# Altium footprint library IFBpcblib.PcbLib: 85 footprints (part 4 of 6)
Each footprint in its own frame and in the unit in brackets; x right, y up, seen from the top. Pads: shape width x height; smd on the part's side, far side on the other; paste and mask are expansions set on the pad; w line width, h text height; cw(c..) or ccw(c..) is an arc to the next point about the centre after c.
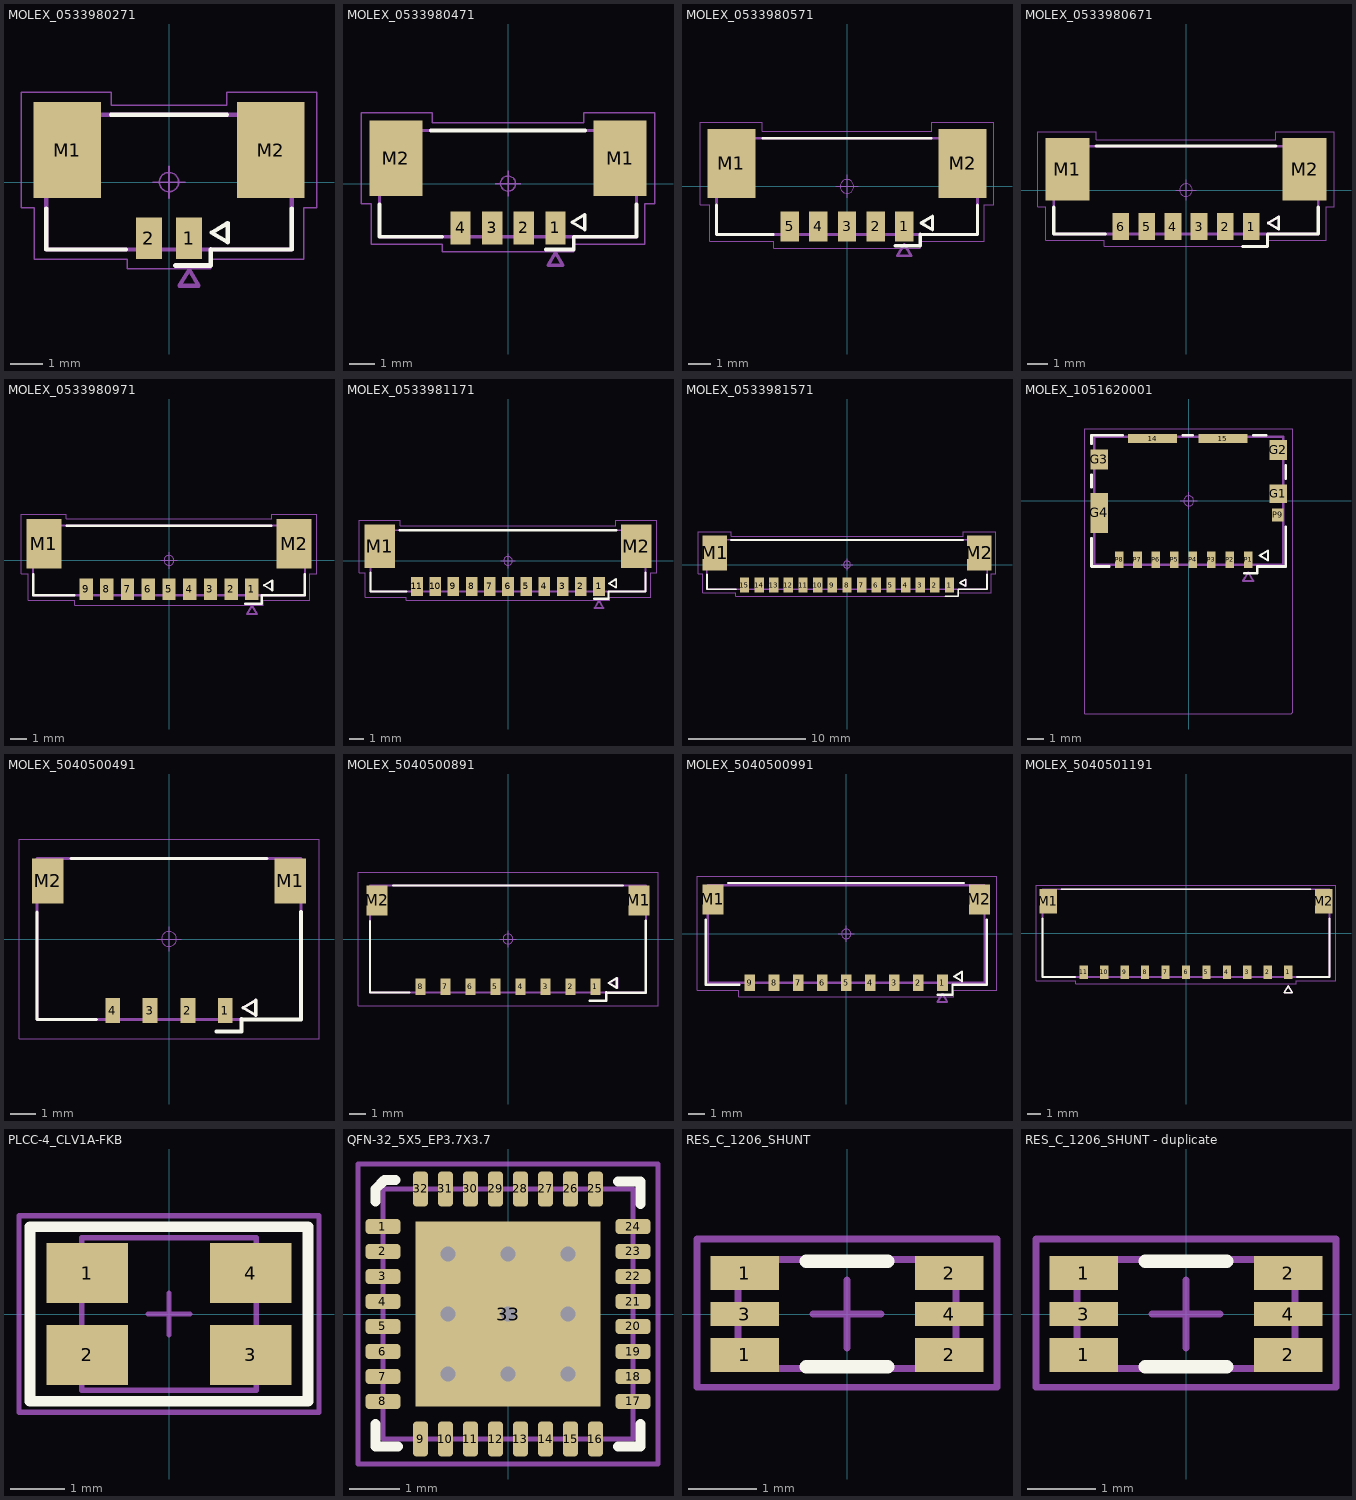
[diagram p3: the footprints below, top view; thin cyan lines are the x and y axes]

## MOLEX_0533980271 [mm]
height 4.7
pads (4):
  rect 0.8x1.3 smd mask+0.076: 1(0.625,-1.75) 2(-0.625,-1.75)
  rect 2.1x3 smd mask+0.076: M1(-3.175,1) M2(3.175,1)
Top Overlay:
  lines w0.127: -3.825,-0.82 -3.825,-2.1 -1.345,-2.1 ; -1.805,2.1 1.805,2.1 ; 1.345,-2.1 3.825,-2.1 3.825,-0.82 ; 1.33,-1.575 1.83,-1.275 1.83,-1.875 1.33,-1.575
  lines w0.15: 0.2,-2.6 1.3,-2.6 1.3,-2.1
Top Assembly:
  lines w0.127: -3.825,-2.1 3.825,-2.1 3.825,2.1 -3.825,2.1 -3.825,-2.1 ; 0.325,-3.23 0.625,-2.73 0.925,-3.23 0.325,-3.23
  text "'.Designator'" at -4.217,-0.663 h1.6
Top Courtyard:
  lines w0.05: -4.6,-0.8 -4.6,2.8 -1.8,2.8 -1.8,2.4 1.8,2.4 1.8,2.8 4.2,2.8 4.6,2.8 4.6,-0.8 4.2,-0.8 4.2,-2.4 1.3,-2.4 1.3,-2.7 -1.3,-2.7 -1.3,-2.4 -4.2,-2.4 -4.2,-0.8 -4.6,-0.8
Top Component Center:
  circle w0.05: c0,0 r0.3
  lines w0.05: -0.5,0 0.5,0 ; 0,-0.5 0,0.5
3D body "533980271.STEP": height 4.7, standoff 0, extent -3.825,-2.096 3.825,2.104

## MOLEX_0533980471 [mm]
height 4.7
pads (6):
  rect 0.8x1.3 smd mask+0.076: 1(1.875,-1.75) 2(0.625,-1.75) 3(-0.625,-1.75) 4(-1.875,-1.75)
  rect 2.1x3 smd mask+0.076: M1(4.425,1) M2(-4.425,1)
Top Overlay:
  lines w0.127: 2.53,-1.525 3.03,-1.225 3.03,-1.825 2.53,-1.525
  lines w0.15: -5.075,-0.82 -5.075,-2.1 -2.595,-2.1 ; -3.055,2.1 3.055,2.1 ; 1.5,-2.6 2.6,-2.6 2.6,-2.1 ; 2.595,-2.1 5.075,-2.1 5.075,-0.82
Top Assembly:
  lines w0.127: -5.075,-2.1 5.075,-2.1 5.075,2.1 -5.075,2.1 -5.075,-2.1 ; 1.575,-3.23 1.875,-2.73 2.175,-3.23 1.575,-3.23
  text "'.Designator'" at -4.217,-0.663 h1.6
Top Courtyard:
  lines w0.05: -5.8,-0.8 -5.8,2.8 -3.4,2.8 -3,2.8 -3,2.4 3,2.4 3,2.8 5.8,2.8 5.8,-0.8 5.4,-0.8 5.4,-2.4 2.6,-2.4 2.6,-2.7 -2.6,-2.7 -2.6,-2.4 -5.4,-2.4 -5.4,-0.8 -5.8,-0.8
Top Component Center:
  circle w0.05: c0,0 r0.3
  lines w0.05: -0.5,0 0.5,0 ; 0,-0.5 0,0.5
3D body "533980471.STEP": height 4.7, standoff 0, extent -5.075,-2.15 5.075,2.05

## MOLEX_0533980571 [mm]
height 4.7
pads (7):
  rect 0.8x1.3 smd mask+0.076: 1(2.5,-1.75) 2(1.25,-1.75) 3(0,-1.75) 4(-1.25,-1.75) 5(-2.5,-1.75)
  rect 2.1x3 smd mask+0.076: M1(-5.05,1) M2(5.05,1)
Top Overlay:
  lines w0.127: -5.7,-0.82 -5.7,-2.1 -3.22,-2.1 ; -3.68,2.1 3.68,2.1 ; 3.22,-2.1 5.7,-2.1 5.7,-0.82 ; 3.23,-1.6 3.73,-1.9 3.73,-1.3 3.23,-1.6
  lines w0.15: 2.1,-2.6 3.2,-2.6 3.2,-2.1
Top Assembly:
  lines w0.127: -5.7,-2.1 5.7,-2.1 5.7,2.1 -5.7,2.1 -5.7,-2.1 ; 2.2,-3.03 2.8,-3.03 2.5,-2.53 2.2,-3.03
  text "'.Designator'" at -4.217,-0.663 h1.6
Top Courtyard:
  lines w0.05: -6.4,-0.8 -6,-0.8 -6,-2.4 -3.2,-2.4 -3.2,-2.7 3.2,-2.7 3.2,-2.4 6,-2.4 6,-0.8 6.4,-0.8 6.4,2.8 3.7,2.8 3.7,2.4 -3.7,2.4 -3.7,2.8 -6.4,2.8 -6.4,2.4 -6.4,-0.8
Top Component Center:
  circle w0.05: c0,0 r0.3
  lines w0.05: -0.5,0 0.5,0 ; 0,-0.5 0,0.5
3D body "step_temp.STEP": height 4.7, standoff 0, extent -5.7,-2.35 5.7,1.85

## MOLEX_0533980671 [mm]
height 4.7
pads (8):
  rect 0.8x1.3 smd mask+0.076: 1(3.125,-1.75) 2(1.875,-1.75) 3(0.625,-1.75) 4(-0.625,-1.75) 5(-1.875,-1.75) 6(-3.125,-1.75)
  rect 2.1x3 smd mask+0.076: M1(-5.675,1) M2(5.675,1)
Top Overlay:
  lines w0.127: 3.93,-1.575 4.43,-1.875 4.43,-1.275 3.93,-1.575
  lines w0.15: -6.325,-0.82 -6.325,-2.1 -3.845,-2.1 ; -4.305,2.1 4.305,2.1 ; 2.7,-2.7 3.9,-2.7 3.9,-2.1 6.325,-2.1 6.325,-0.82
Top Assembly:
  lines w0.127: -6.325,-2.1 -6.325,2.1 6.325,2.1 6.325,-2.1 -6.325,-2.1
  text "'.Designator'" at -4.217,-0.663 h1.6
Top Courtyard:
  lines w0.05: -7.1,-0.8 -7.1,2.8 -4.7,2.8 -4.3,2.8 -4.3,2.4 4.3,2.4 4.3,2.8 7.1,2.8 7.1,-0.8 6.7,-0.8 6.7,-2.4 3.9,-2.4 3.9,-2.7 -3.9,-2.7 -3.9,-2.4 -6.7,-2.4 -6.7,-0.8 -7.1,-0.8
Top Component Center:
  circle w0.05: c0,0 r0.3
  lines w0.05: -0.5,0 0.5,0 ; 0,-0.5 0,0.5
Mechanical 13:
  lines w0.127: 3.93,-1.575 4.43,-1.875 4.43,-1.275 3.93,-1.575
3D body "533980671.stp": height 4.7, standoff 0, extent -6.325,-2.1 6.325,2.1

## MOLEX_0533980971 [mm]
height 4.7
pads (11):
  rect 0.8x1.3 smd mask+0.076: 1(5,-1.75) 2(3.75,-1.75) 3(2.5,-1.75) 4(1.25,-1.75) 5(0,-1.75) 6(-1.25,-1.75) 7(-2.5,-1.75) 8(-3.75,-1.75) 9(-5,-1.75)
  rect 2.1x3 smd mask+0.076: M1(-7.55,1) M2(7.55,1)
Top Overlay:
  lines w0.127: 5.73,-1.5 6.23,-1.8 6.23,-1.2 5.73,-1.5
  lines w0.15: -8.2,-0.82 -8.2,-2.1 -5.72,-2.1 ; -6.18,2.1 6.18,2.1 ; 4.6,-2.6 5.6,-2.6 5.6,-2.1 8.2,-2.1 8.2,-0.82
Top Assembly:
  lines w0.127: -8.2,-2.1 -8.2,2.1 8.2,2.1 8.2,-2.1 -8.2,-2.1 ; 4.7,-3.23 5.3,-3.23 5,-2.73 4.7,-3.23
  text "'.Designator'" at -4.217,-0.663 h1.6
Top Courtyard:
  lines w0.05: -8.9,-0.8 -8.9,2.8 -6.5,2.8 -6.2,2.8 -6.2,2.5 6.2,2.5 6.2,2.8 8.9,2.8 8.9,-0.8 8.5,-0.8 8.5,-2.4 5.7,-2.4 5.7,-2.7 -5.7,-2.7 -5.7,-2.4 -8.5,-2.4 -8.5,-0.8 -8.9,-0.8
Top Component Center:
  circle w0.05: c0,0 r0.3
  lines w0.05: -0.5,0 0.5,0 ; 0,-0.5 0,0.5
3D body "533980971.STEP": height 4.7, standoff 0, extent -8.3,-2.05 8.1,2.15

## MOLEX_0533981171 [mm]
height 4.7
pads (13):
  rect 0.8x1.3 smd mask+0.076: 1(6.25,-1.75) 2(5,-1.75) 3(3.75,-1.75) 4(2.5,-1.75) 5(1.25,-1.75) 6(0,-1.75) 7(-1.25,-1.75) 8(-2.5,-1.75) 9(-3.75,-1.75) 10(-5,-1.75) 11(-6.25,-1.75)
  rect 2.1x3 smd mask+0.076: M1(-8.8,1) M2(8.8,1)
Top Overlay:
  lines w0.127: 6.93,-1.55 7.43,-1.25 7.43,-1.85 6.93,-1.55
  lines w0.15: -9.45,-0.82 -9.45,-2.1 -6.97,-2.1 ; -7.43,2.1 7.43,2.1 ; 5.9,-2.6 6.9,-2.6 6.9,-2.1 9.45,-2.1 9.45,-0.82
Top Assembly:
  lines w0.127: -9.45,-2.1 9.45,-2.1 9.45,2.1 -9.45,2.1 -9.45,-2.1 ; 5.95,-3.23 6.25,-2.73 6.55,-3.23 5.95,-3.23
  text "'.Designator'" at -4.217,-0.663 h1.6
Top Courtyard:
  lines w0.05: -10.2,-0.8 -9.8,-0.8 -9.8,-2.4 -9.8,-2.5 -7,-2.5 -7,-2.7 7,-2.7 7,-2.5 9.8,-2.5 9.8,-0.8 10.2,-0.8 10.2,2.8 7.4,2.8 7.4,2.4 -7.4,2.4 -7.4,2.8 -7.8,2.8 -10.2,2.8 -10.2,-0.8
Top Component Center:
  circle w0.05: c0,0 r0.3
  lines w0.05: -0.5,0 0.5,0 ; 0,-0.5 0,0.5
3D body "533981171.STEP": height 4.7, standoff 0, extent -9.45,-2.15 9.45,2.05

## MOLEX_0533981571 [mm]
height 4.7
pads (17):
  rect 0.8x1.3 smd mask+0.076: 1(8.75,-1.75) 2(7.5,-1.75) 3(6.25,-1.75) 4(5,-1.75) 5(3.75,-1.75) 6(2.5,-1.75) 7(1.25,-1.75) 8(0,-1.75) 9(-1.25,-1.75) 10(-2.5,-1.75) 11(-3.75,-1.75) 12(-5,-1.75) 13(-6.25,-1.75) 14(-7.5,-1.75) 15(-8.75,-1.75)
  rect 2.1x3 smd mask+0.076: M1(-11.3,1) M2(11.3,1)
Top Overlay:
  lines w0.127: 9.63,-1.55 10.13,-1.85 10.13,-1.25 9.63,-1.55
  lines w0.15: -11.95,-0.82 -11.95,-2.1 -9.47,-2.1 ; -9.93,2.1 9.93,2.1 ; 8.4,-2.7 9.5,-2.7 9.5,-2.1 11.95,-2.1 11.95,-0.82
Top Assembly:
  lines w0.127: -11.95,-2.1 -11.95,2.1 11.95,2.1 11.95,-2.1 -11.95,-2.1 ; 9.63,-1.55 10.13,-1.25 10.13,-1.85 9.63,-1.55
  text "'.Designator'" at -4.217,-0.663 h1.6
Top Courtyard:
  lines w0.05: -12.7,-0.8 -12.3,-0.8 -12.3,-2.4 -9.5,-2.4 -9.5,-2.7 9.493,-2.7 9.493,-2.407 9.5,-2.4 12.3,-2.4 12.3,-0.8 12.7,-0.8 12.7,2.8 9.9,2.8 9.9,2.4 -9.889,2.4 -9.889,2.789 -9.9,2.8 -12.3,2.8 -12.7,2.8 -12.7,-0.8
Top Component Center:
  circle w0.05: c0,0 r0.3
  lines w0.05: -0.5,0 0.5,0 ; 0,-0.5 0,0.5
3D body "533981571.stp": height 4.7, standoff 0, extent -11.95,-2.1 11.95,2.1

## MOLEX_1051620001 [mil]
pads (15):
  rect 115x22 smd: 14(-84.45,146.35) 15(80.51,146.35)
  rect 41x43 smd: G1(209.65,17.02)
  rect 41x47 smd: G2(209.65,119.78) G3(-209.64,97.33)
  rect 41x94 smd: G4(-209.65,-28.06)
  rect 20x39 smd: P1(139.76,-138.49) P2(96.46,-138.49) P3(53.15,-138.49) P4(9.84,-138.49) P5(-33.46,-138.49) P6(-76.77,-138.49) P7(-120.08,-138.49) P8(-163.39,-138.49)
  rect 28x31 smd: P9(209.06,-32.98)
Top Overlay:
  lines w5: 166.54,-127.95 186.22,-139.76 186.22,-116.14 166.54,-127.95
  lines w5.91: 129.92,-169.29 161.42,-169.29 161.42,-153.54
  lines w6: -228,-88 -228,-154 -186,-154 ; -228,32 -228,61 ; -228,134 -228,154 -155,154 ; -14,154 10,154 ; 151,154 182,154 ; 163,-154 228,-154 228,-61 ; 228,52 228,83
Top Assembly:
  lines w5: 127.91,-187.55 151.53,-187.55 139.72,-167.87 127.91,-187.55
  lines w6: -222,-150 222,-150 222,150 -222,150 -222,-150
  text "'.Designator'" at -166.01,-26.12 h62.99
Top Courtyard:
  lines w1.97: -244.09,-500 240.16,-500 244.09,-496.06 244.09,169.29 -228.35,169.29 -244.09,169.29 -244.09,-169.29 -244.09,-500
Top Component Center:
  circle w1.97: c0,0 r11.81
  lines w1.97: -19.68,0 19.68,0 ; 0,-19.68 0,19.68
3D body "1051620001.STEP": height 57.09, standoff 0, extent -222.44,-149.61 222.44,149.61
3D body "User Library-Micro SD Card.SLDPRT": height 59.18, standoff 15.18, extent -208.66,-484.78 226.34,106.82

## MOLEX_5040500491 [mm]
height 2.15
pads (6):
  rect 0.6x1 smd mask+0.076: 1(2.25,-2.87) 2(0.75,-2.87) 3(-0.75,-2.87) 4(-2.25,-2.87)
  rect 1.25x1.8 smd mask+0.076: M1(4.855,2.32) M2(-4.855,2.32)
Top Overlay:
  lines w0.127: -5.275,1.08 -5.275,-3.22 -2.9,-3.22 ; -3.91,3.22 3.91,3.22 ; 2.97,-2.75 3.47,-2.45 3.47,-3.05 2.97,-2.75
  lines w0.15: 1.9,-3.7 2.9,-3.7 2.9,-3.2 ; 2.9,-3.22 5.275,-3.22 5.275,1.08
Top Assembly:
  text "'.Designator'" at -4.217,-0.663 h1.6
Top Courtyard:
  lines w0.05: -6,-4 6,-4 6,4 -6,4 -6,-4
Top Component Center:
  circle w0.05: c0,0 r0.3
  lines w0.05: -0.5,0 0.5,0 ; 0,-0.5 0,0.5
Mechanical 13:
  lines w0.127: -5.275,-3.22 -5.275,3.22 5.275,3.22 5.275,-3.22 -5.275,-3.22 ; 2.97,-2.75 3.47,-2.45 3.47,-3.05 2.97,-2.75
3D body "5040500491.stp": height 2, standoff 0, extent -5.275,-3.2 5.275,3.24

## MOLEX_5040500891 [mm]
height 2.15
pads (10):
  rect 0.6x1 smd mask+0.076: 1(5.25,-2.87) 2(3.75,-2.87) 3(2.25,-2.87) 4(0.75,-2.87) 5(-0.75,-2.87) 6(-2.25,-2.87) 7(-3.75,-2.87) 8(-5.25,-2.87)
  rect 1.25x1.8 smd mask+0.076: M1(7.855,2.32) M2(-7.855,2.32)
Top Overlay:
  lines w0.127: -8.275,1.08 -8.275,-3.22 -5.9,-3.22 ; -6.91,3.22 6.91,3.22 ; 6.028,-2.645 6.528,-2.345 6.528,-2.945 6.028,-2.645
  lines w0.15: 4.9,-3.7 5.9,-3.7 5.9,-3.2 ; 5.9,-3.22 8.275,-3.22 8.275,1.08
Top Assembly:
  text "'.Designator'" at -4.217,-0.663 h1.6
Top Courtyard:
  lines w0.05: -9,-4 9,-4 9,4 -9,4 -9,-4
Top Component Center:
  circle w0.05: c0,0 r0.3
  lines w0.05: -0.5,0 0.5,0 ; 0,-0.5 0,0.5
Mechanical 13:
  lines w0.127: -8.275,-3.22 -8.275,3.22 8.275,3.22 8.275,-3.22 -8.275,-3.22 ; 6.07,-2.65 6.57,-2.95 6.57,-2.35 6.07,-2.65
3D body "5040500891.stp": height 2, standoff 0, extent -8.275,-3.2 8.275,3.24

## MOLEX_5040500991 [mil]
pads (11):
  rect 26x41 smd paste+0 mask+0: 1(236.22,-119.76) 2(177.17,-119.76) 3(118.11,-119.76) 4(59.06,-119.76) 5(0,-119.76) 6(-59.06,-119.76) 7(-118.11,-119.76) 8(-177.17,-119.76) 9(-236.22,-119.76)
  rect 51x73 smd: M1(-326.97,84.57) M2(326.97,84.57)
Top Overlay:
  lines w5: 264.96,-104.33 284.65,-116.14 284.65,-92.52 264.96,-104.33
  lines w5.91: -344.5,34.97 -344.5,-125 -262.32,-125 ; -288.97,125 288.97,125 ; 224.41,-149.61 260.92,-149.61 260.92,-125.02 ; 344.5,34.97 344.5,-125 260.9,-125 ; 260.9,-125 260.92,-125.02
Top Assembly:
  lines w5: 224.26,-166.53 247.89,-166.53 236.07,-146.84 224.26,-166.53
  lines w5.91: -339.5,-120 -339.5,120 339.5,120 339.5,-120 -339.5,-120
  text "'.Designator'" at -166.01,-26.12 h62.99
Top Courtyard:
  lines w1.97: -366.14,-137.8 -263.78,-137.8 -263.78,-153.54 263.78,-153.54 263.78,-137.8 370.08,-137.8 370.08,141.73 -303.15,141.73 -366.14,141.73 -366.14,-137.8
Top Component Center:
  circle w1.97: c0,0 r11.81
  lines w1.97: -19.68,0 19.68,0 ; 0,-19.68 0,19.68
3D body "5040500991.stp": height 78.74, standoff 0, extent -355.31,-125.98 355.31,127.56

## MOLEX_5040501191 [mm]
height 2.15
pads (13):
  rect 0.6x1 smd mask+0.076: 1(7.5,-2.87) 2(6,-2.87) 3(4.5,-2.87) 4(3,-2.87) 5(1.5,-2.87) 6(0,-2.87) 7(-1.5,-2.87) 8(-3,-2.87) 9(-4.5,-2.87) 10(-6,-2.87) 11(-7.5,-2.87)
  rect 1.25x1.8 smd mask+0.076: M1(-10.105,2.32) M2(10.105,2.32)
Top Overlay:
  lines w0.127: -10.525,1.08 -10.525,-3.22 -8.15,-3.22 ; -9.16,3.22 9.16,3.22 ; 8.15,-3.22 10.525,-3.22 10.525,1.08 ; 7.2,-4.37 7.5,-3.87 7.8,-4.37 7.2,-4.37
Top Courtyard:
  lines w0.05: -11,-3.5 -11,3.5 11,3.5 11,3.4 11,-3.5 10.8,-3.5 8.1,-3.5 8.1,-3.7 -8.1,-3.7 -8.1,-3.5 -11,-3.5
Mechanical 13:
  lines w0.127: -10.525,-3.22 -10.525,3.22 10.525,3.22 10.525,-3.22 -10.525,-3.22 ; 7.2,-4.37 7.5,-3.87 7.8,-4.37 7.2,-4.37
3D body "5040501191.stp": height 2, standoff 0, extent -10.525,-3.2 10.525,3.24

## PLCC-4_CLV1A-FKB [mm] "PLCC4 3 in 1 SMD LED"
height 2.1
pads (4):
  rect 1.5x1.1 smd: 1(-1.5,0.75) 2(-1.5,-0.75) 3(1.5,-0.75) 4(1.5,0.75)
Top Overlay:
  lines w0.2: -2.55,-1.6 2.55,-1.6 2.55,1.6 -2.55,1.6 -2.55,-1.6
  text "." at -3.125,1.35 h1
Top Assembly:
  lines w0.1: -1.6,-1.4 1.6,-1.4 1.6,1.4 -1.6,1.4 -1.6,-1.4
  text "." at -2.025,0.825 h1
Top Courtyard:
  lines w0.1: -0.381,0 0.381,0 ; 0,-0.381 0,0.381 ; -2.75,-1.8 -2.75,1.8 2.75,1.8 2.75,-1.8 -2.75,-1.8
3D body "CLV1AFKB.STEP": height 1.9, standoff 0, extent -1.75,-1.4 1.75,1.4

## QFN-32_5X5_EP3.7X3.7 [mm] "QFN32_5MMwith ePAD"
pads (33):
  rrect50% 0.7x0.3 smd mask+0.05: 1(-2.5,1.75) 2(-2.5,1.25) 3(-2.5,0.75) 4(-2.5,0.25) 5(-2.5,-0.25) 6(-2.5,-0.75) 7(-2.5,-1.25) 8(-2.5,-1.75) 17(2.5,-1.75) 18(2.5,-1.25) 19(2.5,-0.75) 20(2.5,-0.25) 21(2.5,0.25) 22(2.5,0.75) 23(2.5,1.25) 24(2.5,1.75)
  rrect50% 0.3x0.7 smd mask+0.05: 9(-1.75,-2.5) 10(-1.25,-2.5) 11(-0.75,-2.5) 12(-0.25,-2.5) 13(0.25,-2.5) 14(0.75,-2.5) 15(1.25,-2.5) 16(1.75,-2.5) 25(1.75,2.5) 26(1.25,2.5) 27(0.75,2.5) 28(0.25,2.5) 29(-0.25,2.5) 30(-0.75,2.5) 31(-1.25,2.5) 32(-1.75,2.5)
  rect 3.7x3.7 smd mask+0.05: 33(0,0)
via 0,0 diameter 0.55 hole 0.3
via -1.2,0 diameter 0.55 hole 0.3
via 1.2,0 diameter 0.55 hole 0.3
via -1.2,1.2 diameter 0.55 hole 0.3
via 0,1.2 diameter 0.55 hole 0.3
via 1.2,1.2 diameter 0.55 hole 0.3
via 1.2,-1.2 diameter 0.55 hole 0.3
via 0,-1.2 diameter 0.55 hole 0.3
via -1.2,-1.2 diameter 0.55 hole 0.3
Top Overlay:
  lines w0.2: -2.65,-2.2 -2.65,-2.65 -2.2,-2.65 ; -2.65,2.25 -2.65,2.5 -2.475,2.675 -2.25,2.675 ; 2.2,-2.65 2.65,-2.65 2.65,-2.2 ; 2.2,2.65 2.65,2.65 2.65,2.2
  text "." at -3.35,2.15 h1
Top Assembly:
  lines w0.1: -2.5,-2.5 2.5,-2.5 2.5,2.5 -2.5,2.5 -2.5,-2.5
  text ".Designator" at -0.889,-0.381 h1.02
  text "1" at -2.286,1.905 h0.76
Top Courtyard:
  lines w0.1: -0.305,-0.024 0.28,-0.024 ; 0,-0.303 0,0.255 ; -3,-3 -3,3 3,3 3,-3 -3,-3
3D body "User Library-VQFN-32.STEP": height 1.01, standoff 0, extent -2.56,-2.56 2.56,2.56

## RES_C_1206_SHUNT [mm] "Chip Resistor, 2-Leads, Body 3.2x1.6mm, IPC Medium Density"
height 0.6
pads (6):
  rect 1x0.5 smd mask+0.05: 1(-1.5,-0.6) 1(-1.5,0.6) 2(1.5,-0.6) 2(1.5,0.6)
  rect 1x0.35 smd mask+0.05: 3(-1.5,0) 4(1.5,0)
Top Overlay:
  lines w0.2: -0.6,-0.775 0.6,-0.775 ; -0.6,0.775 0.6,0.775
Top Assembly:
  lines w0.1: -1.6,-0.8 1.6,-0.8 1.6,0.8 -1.6,0.8 -1.6,-0.8
  text ".Designator" at -1.4,-0.375 h0.75
Top Courtyard:
  lines w0.1: -0.5,0 0.5,0 ; 0,-0.5 0,0.5 ; -2.2,-1.075 -2.2,1.1 2.2,1.1 2.2,-1.075 -2.2,-1.075
Top 3D Body:
  lines w0.1: -1.6,-0.8 -1.6,0.8 1.6,0.8 1.6,-0.8 -1.6,-0.8
3D body "RES_1206.step": height 1, standoff 0, extent -1.6,-0.8 1.6,0.8

## RES_C_1206_SHUNT - duplicate [mm] "Chip Resistor, 2-Leads, Body 3.2x1.6mm, IPC Medium Density"
height 0.6
pads (6):
  rect 1x0.5 smd mask+0.05: 1(-1.5,-0.6) 1(-1.5,0.6) 2(1.5,-0.6) 2(1.5,0.6)
  rect 1x0.35 smd mask+0.05: 3(-1.5,0) 4(1.5,0)
Top Overlay:
  lines w0.2: -0.6,-0.775 0.6,-0.775 ; -0.6,0.775 0.6,0.775
Top Assembly:
  lines w0.1: -1.6,-0.8 -1.6,0.8 1.6,0.8 1.6,-0.8 -1.6,-0.8
  text ".Designator" at -1.4,-0.375 h0.75
Top Courtyard:
  lines w0.1: -0.5,0 0.5,0 ; 0,-0.5 0,0.5 ; -2.2,-1.075 2.2,-1.075 2.2,1.1 -2.2,1.1 -2.2,-1.075
Top 3D Body:
  lines w0.1: -1.6,-0.8 1.6,-0.8 1.6,0.8 -1.6,0.8 -1.6,-0.8
3D body "RES_1206.step": height 1, standoff 0, extent -1.6,-0.8 1.6,0.8